# EAGLE library part WEMOS_LOLIN_32_LITE (library WiFi-devkits)
Wemos LOLIN 32 Lite - ESP32 Author: Martin Vagovszky
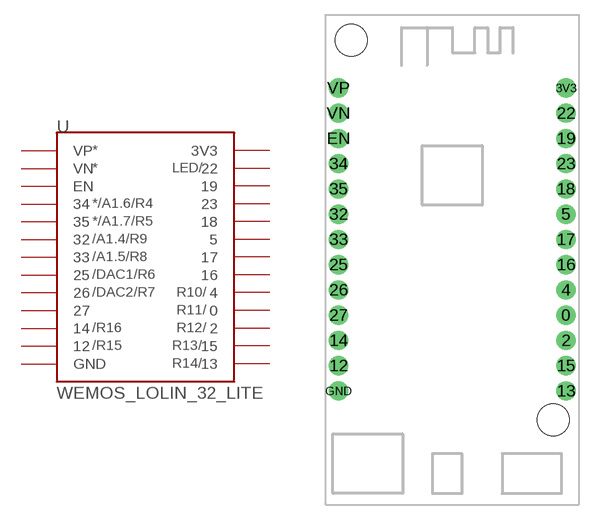
[diagram p1: symbol with the pads of WEMOS_LOLIN_32_LITE; footprint WEMOS_LOLIN_32_LITE]

Designator prefix -

## WEMOS_LOLIN_32_LITE  [WEMOS_LOLIN_32_LITE]
0  0
2  2
3V3  3V3  pwr
4  4
5  5
12  12
13  13
14  14
15  15
16  16
17  17
18  18
19  19
22  22
23  23
25  25
26  26
27  27
32  32
33  33
34  34
35  35
EN  EN
GND  GND  pwr
VN  VN
VP  VP

## Footprint WEMOS_LOLIN_32_LITE (pad centres in mm)
drill 0.8 pad 1.93: 0 11.43,-5.08; 2 11.43,-7.62; 3V3 11.43,17.78; 4 11.43,-2.54; 5 11.43,5.08; 12 -11.43,-10.16; 13 11.43,-12.7; 14 -11.43,-7.62; 15 11.43,-10.16; 16 11.43,0; 17 11.43,2.54; 18 11.43,7.62; 19 11.43,12.7; 22 11.43,15.24; 23 11.43,10.16; 25 -11.43,0; 26 -11.43,-2.54; 27 -11.43,-5.08; 32 -11.43,5.08; 33 -11.43,2.54; 34 -11.43,10.16; 35 -11.43,7.62; EN -11.43,12.7; GND -11.43,-12.7; VN -11.43,15.24; VP -11.43,17.78
hole 3.2 at -10.16,22.59
hole 3.2 at 10.16,-15.59